# EAGLE library part MCP73833 (library Bits_library_eagle 9x)
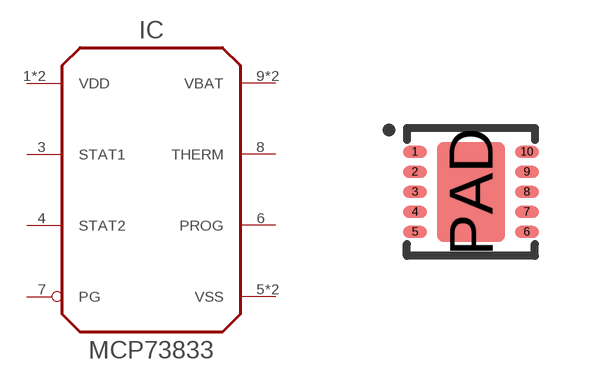
[diagram p83: symbol with the pads of TDFN-10_PAD; footprint TDFN-10_PAD]

Designator prefix IC

## MCP73833DFN10  [TDFN-10_PAD]
1  VDD  pwr
2  VDD  pwr
3  STAT1
4  STAT2
5  VSS  pwr
6  PROG  pas
7  PG
8  THERM  pas
9  VBAT  pas
10  VBAT  pas
PAD  VSS  pwr

## Footprint TDFN-10_PAD (pad centres in mm)
smd 0.6 x 0.3: 1 -1.4,1; 2 -1.4,0.5; 3 -1.4,0; 4 -1.4,-0.5; 5 -1.4,-1; 6 1.4,-1; 7 1.4,-0.5; 8 1.4,0; 9 1.4,0.5; 10 1.4,1
smd 1.7 x 2.5: PAD 0,0